# Altium schematic symbol library BQ296100DSGR.SchLib: 1 symbol
Pins are listed as number, name and electrical type; pins without a type are passive.

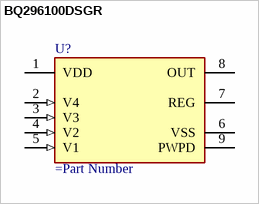
[diagram p0: symbol BQ296100DSGR]

## BQ296100DSGR
designator U?
pins: 1 VDD (power), 2 V4 (in), 3 V3 (in), 4 V2 (in), 5 V1 (in), 6 VSS (power), 7 REG (power), 8 OUT (oc), 9 PWPD (power)